# EAGLE library part 2X9-* (library jt-con-tyco)
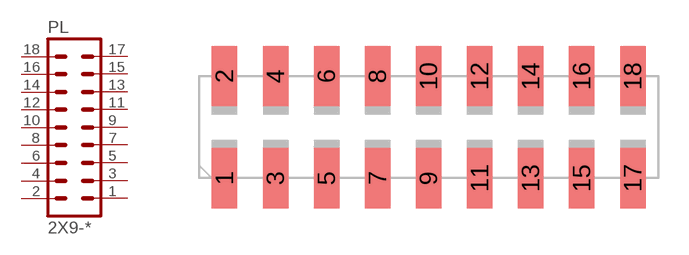
[diagram p10: symbol with the pads of AMP-1241050-9; footprint AMP-1241050-9]

Designator prefix PL

## 2X9-1241050  [AMP-1241050-9]
1  1  pas
2  2  pas
3  3  pas
4  4  pas
5  5  pas
6  6  pas
7  7  pas
8  8  pas
9  9  pas
10  10  pas
11  11  pas
12  12  pas
13  13  pas
14  14  pas
15  15  pas
16  16  pas
17  17  pas
18  18  pas

## Footprint AMP-1241050-9 (pad centres in mm)
smd 1.27 x 3: 1 -10.16,-2.54; 2 -10.16,2.54; 3 -7.62,-2.54; 4 -7.62,2.54; 5 -5.08,-2.54; 6 -5.08,2.54; 7 -2.54,-2.54; 8 -2.54,2.54; 9 0,-2.54; 10 0,2.54; 11 2.54,-2.54; 12 2.54,2.54; 13 5.08,-2.54; 14 5.08,2.54; 15 7.62,-2.54; 16 7.62,2.54; 17 10.16,-2.54; 18 10.16,2.54